# Altium footprint library MCU.PcbLib: 6 footprints
Each footprint in its own frame and in the unit in brackets; x right, y up, seen from the top. Pads: shape width x height; smd on the part's side, far side on the other; paste and mask are expansions set on the pad; w line width, h text height; cw(c..) or ccw(c..) is an arc to the next point about the centre after c.
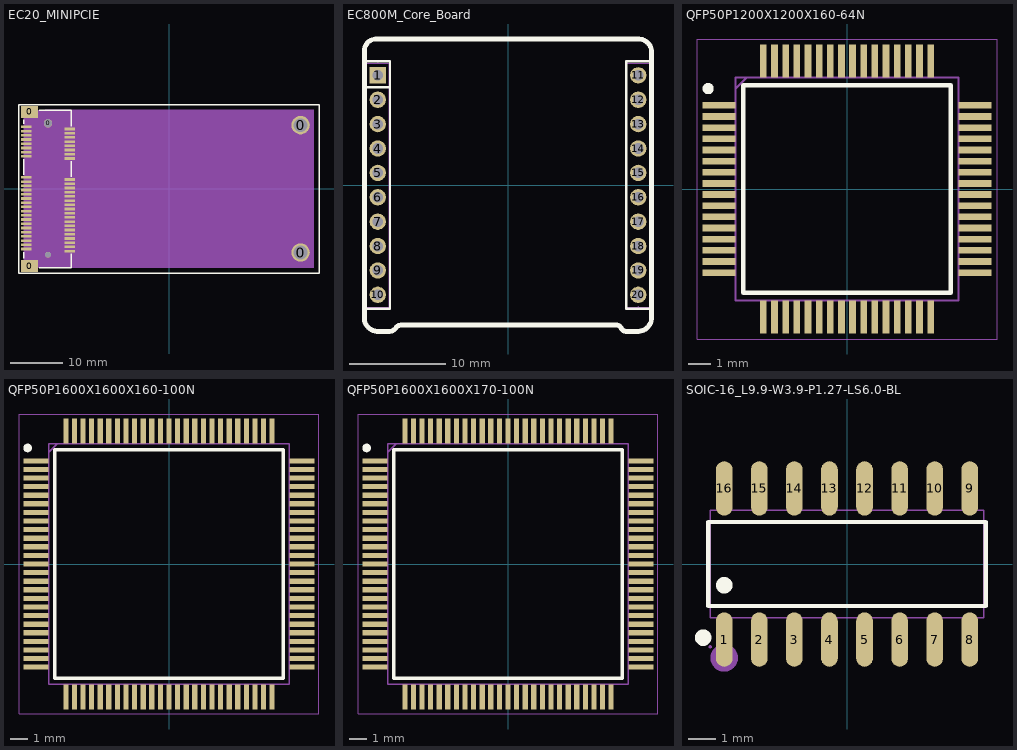
[diagram p0: the footprints below, top view; thin cyan lines are the x and y axes]

## EC20_MINIPCIE [mm]
pads (58):
  rect 3.2x2.3 smd paste+0.102 mask+0.05: 0(-26.488,-14.683) 0(-26.488,14.617)
  round 1.1 hole 1.1 unplated: 0(-22.988,-12.533)
  round 1.6 hole 1.6 unplated: 0(-22.988,12.467)
  round 3.5 hole 2.6: 0(25,-12.1) 0(25,12.1)
  rect 2x0.5 smd paste+0.102 mask+0.05: 1(-27.088,11.767) 2(-18.888,11.367) 3(-27.088,10.967) 4(-18.888,10.567) 5(-27.088,10.167) 6(-18.888,9.767) 7(-27.088,9.367) 8(-18.888,8.967) 9(-27.088,8.567) 10(-18.888,8.167) 11(-27.088,7.767) 12(-18.888,7.367) 13(-27.088,6.967) 14(-18.888,6.567) 15(-27.088,6.167) 16(-18.888,5.767) 17(-27.088,2.167) 18(-18.888,1.767) 19(-27.088,1.367) 20(-18.888,0.967) 21(-27.088,0.567) 22(-18.888,0.167) 23(-27.088,-0.233) 24(-18.888,-0.633) 25(-27.088,-1.033) 26(-18.888,-1.433) 27(-27.088,-1.833) 28(-18.888,-2.233) 29(-27.088,-2.633) 30(-18.888,-3.033) 31(-27.088,-3.433) 32(-18.888,-3.833) 33(-27.088,-4.233) 34(-18.888,-4.633) 35(-27.088,-5.033) 36(-18.888,-5.433) 37(-27.088,-5.833) 38(-18.888,-6.233) 39(-27.088,-6.633) 40(-18.888,-7.033) 41(-27.088,-7.433) 42(-18.888,-7.833) 43(-27.088,-8.233) 44(-18.888,-8.633) 45(-27.088,-9.033) 46(-18.888,-9.433) 47(-27.088,-9.833) 48(-18.888,-10.233) 49(-27.088,-10.633) 50(-18.888,-11.033) 51(-27.088,-11.433) 52(-18.888,-11.833)
Top Overlay:
  lines w0.254: -27.588,-13.233 -27.588,-12.033 ; -27.588,12.367 -27.588,13.167 ; -27.56,2.698 -27.56,5.636 ; -24.657,14.953 -18.543,14.953 -18.543,11.898 ; -24.656,-15.019 -18.542,-15.02 -18.542,-12.363 ; -18.543,2.298 -18.543,5.236 ; -28.5,-16 28.5,-16 28.5,16 -28.5,16 -28.5,-16
Mechanical 15:
  circle w0.152: c0,0 r0.35
  region: -18.5,-14.95 -18.5,14.95 -27.58,14.95 -27.58,-14.95
  region: -23.5,-15 27.5,-15 27.5,15 -23.5,15
  lines w0.152: -0.5,0 0.5,0 ; 0,-0.5 0,0.5

## EC800M_Core_Board [mm]
pads (20):
  rect 1.7x1.7 hole 1.1 mask-2539.97: 1(-13.564,11.43)
  round 1.7 hole 1.1 mask-2539.97: 2(-13.564,8.89) 3(-13.564,6.35) 4(-13.564,3.81) 5(-13.564,1.27) 6(-13.564,-1.27) 7(-13.564,-3.81) 8(-13.564,-6.35) 9(-13.564,-8.89) 10(-13.564,-11.43) 11(13.564,11.43) 12(13.564,8.89) 13(13.564,6.35) 14(13.564,3.81) 15(13.564,1.27) 16(13.564,-1.27) 17(13.564,-3.81) 18(13.564,-6.35) 19(13.564,-8.89) 20(13.564,-11.43)
Top Overlay:
  lines w0.254: -14.834,-12.954 -14.834,12.9 -12.294,12.9 -12.294,-12.9 -14.834,-12.9 ; -14.834,10.169 -12.294,10.169 ; 14.834,12.9 12.294,12.9 12.294,-12.9 14.834,-12.9 14.834,12.954
  lines w0.508: -14.961,-13.741 ccw(c-13.564,-13.843) -13.665,-15.24 -12.345,-15.24 -12.324,-15.24 ccw(c-12.345,-14.473) -11.69,-14.872 -11.689,-14.861 cw(c-11.112,-15.304) -11.049,-14.58 11.273,-14.58 cw(c11.304,-15.105) 11.783,-14.886 11.782,-14.887 ccw(c12.345,-14.621) 12.277,-15.24 13.589,-15.24 ccw(c13.525,-13.805) 14.961,-13.741 14.961,13.792 ccw(c13.589,13.843) 13.64,15.215 -13.792,15.215 ccw(c-13.741,13.995) -14.961,13.945 -14.961,-13.741
Top Solder:
  region: -14.453,10.541 -14.453,12.319 -12.675,12.319 -12.675,10.541
  circle w0.889: c-13.564,-11.43 r0.445
  circle w0.889: c-13.564,-8.89 r0.445
  circle w0.889: c-13.564,-6.35 r0.445
  circle w0.889: c-13.564,-3.81 r0.445
  circle w0.889: c-13.564,-1.27 r0.445
  circle w0.889: c-13.564,1.27 r0.445
  circle w0.889: c-13.564,3.81 r0.445
  circle w0.889: c-13.564,6.35 r0.445
  circle w0.889: c-13.564,8.89 r0.445
  circle w0.889: c13.564,-11.43 r0.445
  circle w0.889: c13.564,8.89 r0.445
  circle w0.889: c13.564,6.35 r0.445
  circle w0.889: c13.564,3.81 r0.445
  circle w0.889: c13.564,1.27 r0.445
  circle w0.889: c13.564,-1.27 r0.445
  circle w0.889: c13.564,-3.81 r0.445
  circle w0.889: c13.564,-6.35 r0.445
  circle w0.889: c13.564,-8.89 r0.445
  circle w0.889: c13.564,11.43 r0.445
Bottom Solder:
  region: -14.453,10.541 -14.453,12.319 -12.675,12.319 -12.675,10.541
  circle w0.889: c-13.564,-11.43 r0.445
  circle w0.889: c-13.564,-8.89 r0.445
  circle w0.889: c-13.564,-6.35 r0.445
  circle w0.889: c-13.564,-3.81 r0.445
  circle w0.889: c-13.564,-1.27 r0.445
  circle w0.889: c-13.564,1.27 r0.445
  circle w0.889: c-13.564,3.81 r0.445
  circle w0.889: c-13.564,6.35 r0.445
  circle w0.889: c-13.564,8.89 r0.445
  circle w0.889: c13.564,-11.43 r0.445
  circle w0.889: c13.564,8.89 r0.445
  circle w0.889: c13.564,6.35 r0.445
  circle w0.889: c13.564,3.81 r0.445
  circle w0.889: c13.564,1.27 r0.445
  circle w0.889: c13.564,-1.27 r0.445
  circle w0.889: c13.564,-3.81 r0.445
  circle w0.889: c13.564,-6.35 r0.445
  circle w0.889: c13.564,-8.89 r0.445
  circle w0.889: c13.564,11.43 r0.445
Mechanical 15:
  region: -13.564,12.64 -13.539,12.64 -13.504,12.675 -13.504,12.725 -13.539,12.76 -13.564,12.76 -13.588,12.76 -13.624,12.725 -13.624,12.675 -13.588,12.64 -13.564,12.64
  region: -13.364,-11.11 -13.364,-11.75 -13.764,-11.75 -13.764,-11.11
  region: -13.364,-8.57 -13.364,-9.21 -13.764,-9.21 -13.764,-8.57
  region: -13.364,-6.03 -13.364,-6.67 -13.764,-6.67 -13.764,-6.03
  region: -13.364,-3.49 -13.364,-4.13 -13.764,-4.13 -13.764,-3.49
  region: -13.364,-0.95 -13.364,-1.59 -13.764,-1.59 -13.764,-0.95
  region: -13.364,1.59 -13.364,0.95 -13.764,0.95 -13.764,1.59
  region: -13.364,4.13 -13.364,3.49 -13.764,3.49 -13.764,4.13
  region: -13.364,6.67 -13.364,6.03 -13.764,6.03 -13.764,6.67
  region: -13.364,9.21 -13.364,8.57 -13.764,8.57 -13.764,9.21
  region: -13.764,11.75 -13.364,11.75 -13.364,11.11 -13.764,11.11
  region: 13.564,-12.64 13.539,-12.64 13.504,-12.675 13.504,-12.725 13.539,-12.76 13.564,-12.76 13.588,-12.76 13.624,-12.725 13.624,-12.675 13.588,-12.64 13.564,-12.64
  region: 13.364,11.11 13.364,11.75 13.764,11.75 13.764,11.11
  region: 13.364,8.57 13.364,9.21 13.764,9.21 13.764,8.57
  region: 13.364,6.03 13.364,6.67 13.764,6.67 13.764,6.03
  region: 13.364,3.49 13.364,4.13 13.764,4.13 13.764,3.49
  region: 13.364,0.95 13.364,1.59 13.764,1.59 13.764,0.95
  region: 13.364,-1.59 13.364,-0.95 13.764,-0.95 13.764,-1.59
  region: 13.364,-4.13 13.364,-3.49 13.764,-3.49 13.764,-4.13
  region: 13.364,-6.67 13.364,-6.03 13.764,-6.03 13.764,-6.67
  region: 13.364,-9.21 13.364,-8.57 13.764,-8.57 13.764,-9.21
  region: 13.764,-11.75 13.364,-11.75 13.364,-11.11 13.764,-11.11
  lines w0.051: -14.764,-12.7 -13.564,-12.7 -12.364,-12.7 -12.364,12.7 -14.764,12.7 -14.764,-12.7 ; 12.364,-12.7 14.764,-12.7 14.764,12.7 13.564,12.7 12.364,12.7 12.364,-12.7

## QFP50P1200X1200X160-64N [mm]
pads (64):
  rect 1.475x0.3 smd: 1(-5.738,3.75) 2(-5.738,3.25) 3(-5.738,2.75) 4(-5.738,2.25) 5(-5.738,1.75) 6(-5.738,1.25) 7(-5.738,0.75) 8(-5.738,0.25) 9(-5.738,-0.25) 10(-5.738,-0.75) 11(-5.738,-1.25) 12(-5.738,-1.75) 13(-5.738,-2.25) 14(-5.738,-2.75) 15(-5.738,-3.25) 16(-5.738,-3.75) 33(5.738,-3.75) 34(5.738,-3.25) 35(5.738,-2.75) 36(5.738,-2.25) 37(5.738,-1.75) 38(5.738,-1.25) 39(5.738,-0.75) 40(5.738,-0.25) 41(5.738,0.25) 42(5.738,0.75) 43(5.738,1.25) 44(5.738,1.75) 45(5.738,2.25) 46(5.738,2.75) 47(5.738,3.25) 48(5.738,3.75)
  rect 0.3x1.475 smd: 17(-3.75,-5.738) 18(-3.25,-5.738) 19(-2.75,-5.738) 20(-2.25,-5.738) 21(-1.75,-5.738) 22(-1.25,-5.738) 23(-0.75,-5.738) 24(-0.25,-5.738) 25(0.25,-5.738) 26(0.75,-5.738) 27(1.25,-5.738) 28(1.75,-5.738) 29(2.25,-5.738) 30(2.75,-5.738) 31(3.25,-5.738) 32(3.75,-5.738) 49(3.75,5.738) 50(3.25,5.738) 51(2.75,5.738) 52(2.25,5.738) 53(1.75,5.738) 54(1.25,5.738) 55(0.75,5.738) 56(0.25,5.738) 57(-0.25,5.738) 58(-0.75,5.738) 59(-1.25,5.738) 60(-1.75,5.738) 61(-2.25,5.738) 62(-2.75,5.738) 63(-3.25,5.738) 64(-3.75,5.738)
Top Overlay:
  circle w0.25: c-6.225,4.5 r0.125
  lines w0.2: -4.65,-4.65 4.65,-4.65 4.65,4.65 -4.65,4.65 -4.65,-4.65
Mechanical 13:
  lines w0.1: -5,4.5 -4.5,5 ; -5,-5 5,-5 5,5 -5,5 -5,-5
Mechanical 15:
  lines w0.05: -6.725,-6.725 6.725,-6.725 6.725,6.725 -6.725,6.725 -6.725,-6.725
3D body "FS32K144HAT0MLHT.stp": height 1.6, standoff 0, extent -6,-6 6,6

## QFP50P1600X1600X160-100N [mm]
pads (100):
  rect 1.475x0.3 smd: 1(-7.738,6) 2(-7.738,5.5) 3(-7.738,5) 4(-7.738,4.5) 5(-7.738,4) 6(-7.738,3.5) 7(-7.738,3) 8(-7.738,2.5) 9(-7.738,2) 10(-7.738,1.5) 11(-7.738,1) 12(-7.738,0.5) 13(-7.738,0) 14(-7.738,-0.5) 15(-7.738,-1) 16(-7.738,-1.5) 17(-7.738,-2) 18(-7.738,-2.5) 19(-7.738,-3) 20(-7.738,-3.5) 21(-7.738,-4) 22(-7.738,-4.5) 23(-7.738,-5) 24(-7.738,-5.5) 25(-7.738,-6) 51(7.738,-6) 52(7.738,-5.5) 53(7.738,-5) 54(7.738,-4.5) 55(7.738,-4) 56(7.738,-3.5) 57(7.738,-3) 58(7.738,-2.5) 59(7.738,-2) 60(7.738,-1.5) 61(7.738,-1) 62(7.738,-0.5) 63(7.738,0) 64(7.738,0.5) 65(7.738,1) 66(7.738,1.5) 67(7.738,2) 68(7.738,2.5) 69(7.738,3) 70(7.738,3.5) 71(7.738,4) 72(7.738,4.5) 73(7.738,5) 74(7.738,5.5) 75(7.738,6)
  rect 0.3x1.475 smd: 26(-6,-7.738) 27(-5.5,-7.738) 28(-5,-7.738) 29(-4.5,-7.738) 30(-4,-7.738) 31(-3.5,-7.738) 32(-3,-7.738) 33(-2.5,-7.738) 34(-2,-7.738) 35(-1.5,-7.738) 36(-1,-7.738) 37(-0.5,-7.738) 38(0,-7.738) 39(0.5,-7.738) 40(1,-7.738) 41(1.5,-7.738) 42(2,-7.738) 43(2.5,-7.738) 44(3,-7.738) 45(3.5,-7.738) 46(4,-7.738) 47(4.5,-7.738) 48(5,-7.738) 49(5.5,-7.738) 50(6,-7.738) 76(6,7.738) 77(5.5,7.738) 78(5,7.738) 79(4.5,7.738) 80(4,7.738) 81(3.5,7.738) 82(3,7.738) 83(2.5,7.738) 84(2,7.738) 85(1.5,7.738) 86(1,7.738) 87(0.5,7.738) 88(0,7.738) 89(-0.5,7.738) 90(-1,7.738) 91(-1.5,7.738) 92(-2,7.738) 93(-2.5,7.738) 94(-3,7.738) 95(-3.5,7.738) 96(-4,7.738) 97(-4.5,7.738) 98(-5,7.738) 99(-5.5,7.738) 100(-6,7.738)
Top Overlay:
  circle w0.25: c-8.225,6.75 r0.125
  lines w0.2: -6.65,-6.65 6.65,-6.65 6.65,6.65 -6.65,6.65 -6.65,-6.65
Mechanical 13:
  lines w0.1: -7,6.5 -6.5,7 ; -7,-7 7,-7 7,7 -7,7 -7,-7
Mechanical 15:
  lines w0.05: -8.725,-8.725 8.725,-8.725 8.725,8.725 -8.725,8.725 -8.725,-8.725
3D body "STM32F407VET6.stp": height 1.6, standoff 0, extent -8,-8 8,8

## QFP50P1600X1600X170-100N [mm]
pads (100):
  rect 1.475x0.3 smd: 1(-7.738,6) 2(-7.738,5.5) 3(-7.738,5) 4(-7.738,4.5) 5(-7.738,4) 6(-7.738,3.5) 7(-7.738,3) 8(-7.738,2.5) 9(-7.738,2) 10(-7.738,1.5) 11(-7.738,1) 12(-7.738,0.5) 13(-7.738,0) 14(-7.738,-0.5) 15(-7.738,-1) 16(-7.738,-1.5) 17(-7.738,-2) 18(-7.738,-2.5) 19(-7.738,-3) 20(-7.738,-3.5) 21(-7.738,-4) 22(-7.738,-4.5) 23(-7.738,-5) 24(-7.738,-5.5) 25(-7.738,-6) 51(7.738,-6) 52(7.738,-5.5) 53(7.738,-5) 54(7.738,-4.5) 55(7.738,-4) 56(7.738,-3.5) 57(7.738,-3) 58(7.738,-2.5) 59(7.738,-2) 60(7.738,-1.5) 61(7.738,-1) 62(7.738,-0.5) 63(7.738,0) 64(7.738,0.5) 65(7.738,1) 66(7.738,1.5) 67(7.738,2) 68(7.738,2.5) 69(7.738,3) 70(7.738,3.5) 71(7.738,4) 72(7.738,4.5) 73(7.738,5) 74(7.738,5.5) 75(7.738,6)
  rect 0.3x1.475 smd: 26(-6,-7.738) 27(-5.5,-7.738) 28(-5,-7.738) 29(-4.5,-7.738) 30(-4,-7.738) 31(-3.5,-7.738) 32(-3,-7.738) 33(-2.5,-7.738) 34(-2,-7.738) 35(-1.5,-7.738) 36(-1,-7.738) 37(-0.5,-7.738) 38(0,-7.738) 39(0.5,-7.738) 40(1,-7.738) 41(1.5,-7.738) 42(2,-7.738) 43(2.5,-7.738) 44(3,-7.738) 45(3.5,-7.738) 46(4,-7.738) 47(4.5,-7.738) 48(5,-7.738) 49(5.5,-7.738) 50(6,-7.738) 76(6,7.738) 77(5.5,7.738) 78(5,7.738) 79(4.5,7.738) 80(4,7.738) 81(3.5,7.738) 82(3,7.738) 83(2.5,7.738) 84(2,7.738) 85(1.5,7.738) 86(1,7.738) 87(0.5,7.738) 88(0,7.738) 89(-0.5,7.738) 90(-1,7.738) 91(-1.5,7.738) 92(-2,7.738) 93(-2.5,7.738) 94(-3,7.738) 95(-3.5,7.738) 96(-4,7.738) 97(-4.5,7.738) 98(-5,7.738) 99(-5.5,7.738) 100(-6,7.738)
Top Overlay:
  circle w0.25: c-8.225,6.75 r0.125
  lines w0.2: -6.65,-6.65 -6.65,6.65 6.65,6.65 6.65,-6.65 -6.65,-6.65
Mechanical 13:
  lines w0.1: -7,6.5 -6.5,7 ; -7,-7 -7,7 7,7 7,-7 -7,-7
Mechanical 15:
  lines w0.05: -8.725,-8.725 -8.725,8.725 8.725,8.725 8.725,-8.725 -8.725,-8.725
3D body "FS32K144UAT0VLLT.stp": height 1.7, standoff 0, extent -8,-8 8,8

## SOIC-16_L9.9-W3.9-P1.27-LS6.0-BL [mm]
pads (16):
  oval 0.602x1.971 smd: 1(-4.445,-2.736) 2(-3.175,-2.736) 3(-1.905,-2.736) 4(-0.635,-2.736) 5(0.635,-2.736) 6(1.905,-2.736) 7(3.175,-2.736) 8(4.445,-2.736) 9(4.445,2.736) 10(3.175,2.736) 11(1.905,2.736) 12(0.635,2.736) 13(-0.635,2.736) 14(-1.905,2.736) 15(-3.175,2.736) 16(-4.445,2.736)
Top Overlay:
  circle w0.3: c-5.207,-2.667 r0.15
  circle w0.3: c-4.445,-0.769 r0.15
  lines w0.152: -5.026,-1.521 5.026,-1.521 5.026,1.521 -5.026,1.521 -5.026,-1.521
Mechanical 6:
  circle w0.5: c-4.445,-3.4 r0.25
Mechanical 15:
  drawing of 37 lines, arcs and shapes, not listed